# EAGLE library part OPAMP_LMV358 (library 1_ZeroUI)
Jellybean rail-to-rail output op-amp DFN Package: http://www.st.com/content/ccc/resource/technical/document/datasheet/61/46/87/01/98/ed/44/c5/CD00000464.pdf/files/CD00000464.pdf/jcr:content/translations/en.CD00000464.pdf
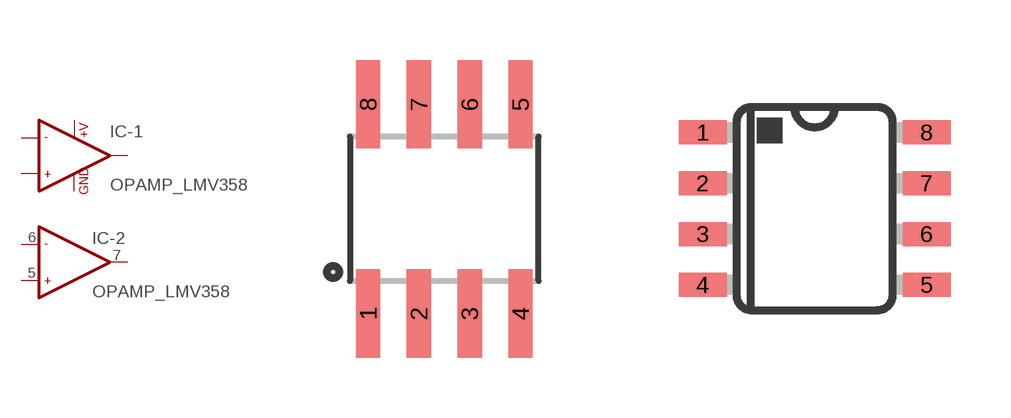
[diagram p9: symbol with the pads of SO08; footprints SO08, SO08-TIGHT]

Designator prefix IC; gates -1=OPAMP_2 -2=OPAMP_2_1

## OPAMP_LMV358" (VALUE: LMV358)  [SO08]
1  -1:OUT1  out
2  -1:-IN1  in
3  -1:+IN1  in
4  -1:GND  pwr
5  -2:IN+  in
6  -2:IN-  in
7  -2:OUT  out
8  -1:+V  pwr

## OPAMP_LMV358-T (VALUE: LMV358SOICT)  [SO08-TIGHT]
Pads as for SO08

## OPAMP_LMV358 (DESCRIPTION: http://www.st.com/content/ccc/resource/technical/document/datasheet/61/46/87/01/98/ed/44/c5/CD00000464.pdf/files/CD00000464.pdf/jcr:content/translations/en.CD00000464.pdf; VALUE: LM358-DFN8)  [DFN-8]
1  -1:OUT1  out
2  -1:-IN1  in
3  -1:+IN1  in
4  -1:GND  pwr
5  -2:IN+  in
6  -2:IN-  in
7  -2:OUT  out
8  -1:+V  pwr
PAD  -1:GND  pwr

## Footprint SO08 (pad centres in mm)
Small Outline Package Fits JEDEC packages (narrow SOIC-8)
smd 0.61 x 2.21: 1 -1.905,-2.616; 2 -0.635,-2.616; 3 0.635,-2.616; 4 1.905,-2.616; 5 1.905,2.616; 6 0.635,2.616; 7 -0.635,2.616; 8 -1.905,2.616

## Footprint SO08-TIGHT (pad centres in mm)
smd 1.2 x 0.6: 1 -2.8,1.905; 2 -2.8,0.635; 3 -2.8,-0.635; 4 -2.8,-1.905; 5 2.8,-1.905; 6 2.8,-0.635; 7 2.8,0.635; 8 2.8,1.905

## Footprint DFN-8 (pad centres in mm)
Footprint based on information in: http://www.st.com/content/ccc/resource/technical/document/datasheet/61/46/87/01/98/ed/44/c5/CD00000464.pdf/files/CD00000464.pdf/jcr:content/translations/en.CD00000464.pdf Now follows http://pdfserv.maximintegrated.com/land_patterns/90-0065.PDF Pasted was reduced by 40% width on the center ground pad, and some amount on the other 8. Stop mask extends 135 µm wider than the pad to hit dead center of what IPC-7351 recommends.
smd 0.3 x 0.75: 1 -0.75,-1.025; 2 -0.25,-1.025; 3 0.25,-1.025; 4 0.75,-1.025; 5 0.75,1.025; 6 0.25,1.025; 7 -0.25,1.025; 8 -0.75,1.025
smd 1.6 x 0.45: PAD 0,0